# EAGLE library part MIC20*5 (library Misaka-IC)
Single-Channel Power Distribution Switch Supply voltage: 2.7...5.5V Output current: 500mA Short-circuit protection Soft-start circuit "Smart" thermal shutdown(MIC2075) Enable: MIC2025-1xxx - Active High MIC2025-2xxx - Active Low
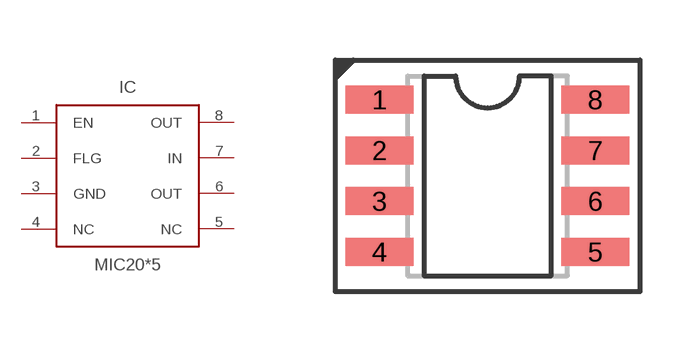
[diagram p9: symbol with the pads of SO-8; footprint SO-8]

Designator prefix IC

## MIC2025-1YM, MIC2075-1YM  [SO-8]
1  EN  in
2  FLG  out
3  GND  pwr
4  NC  nc
5  NC  nc
6  OUT  out
7  IN  in
8  OUT  out

## MIC2025-2YM, MIC2075-2YM  [SO-8]
Pads as for SO-8

## Footprint SO-8 (pad centres in mm)
Small-Outline Integrated Circuit 150 mil body
smd 1.7 x 0.7: 1 -2.7,1.905; 2 -2.7,0.635; 3 -2.7,-0.635; 4 -2.7,-1.905; 5 2.7,-1.905; 6 2.7,-0.635; 7 2.7,0.635; 8 2.7,1.905